# EAGLE library part TSL2591 (library Sensors Library)
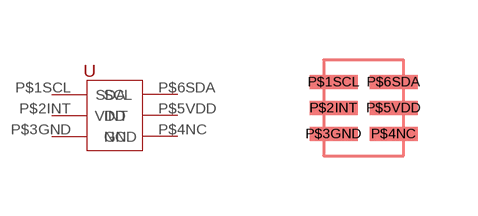
[diagram p3: symbol with the pads of TSL2591; footprint TSL2591]

Designator prefix -

## TSL2591  [TSL2591]
P$1SCL  SCL
P$2INT  INT
P$3GND  GND
P$4NC  NC
P$5VDD  VDD
P$6SDA  SDA

## Footprint TSL2591 (pad centres in mm)
smd 1.2 x 0.35: P$1SCL -0.75,0.65; P$2INT -0.75,0; P$3GND -0.75,-0.65; P$4NC 0.75,-0.65; P$5VDD 0.75,0; P$6SDA 0.75,0.65